# Altium footprint library Temp Sensirion assy FPC.PcbLib: 3 footprints
Each footprint in its own frame and in the unit in brackets; x right, y up, seen from the top. Pads: shape width x height; smd on the part's side, far side on the other; paste and mask are expansions set on the pad; w line width, h text height; cw(c..) or ccw(c..) is an arc to the next point about the centre after c.
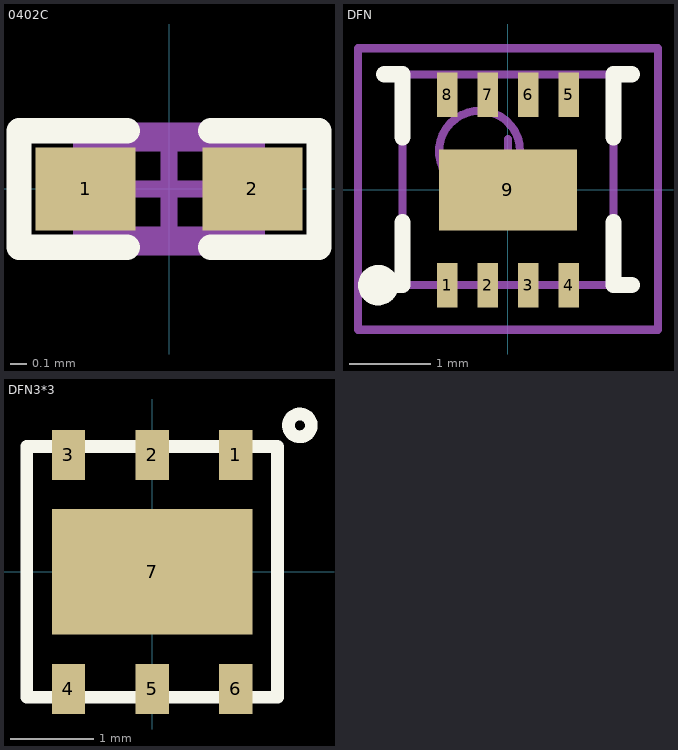
[diagram p0: the footprints below, top view; thin cyan lines are the x and y axes]

## 0402C [mm]
pads (2):
  rect 0.6x0.5 smd: 1(-0.5,0) 2(0.5,0)
Top Overlay:
  lines w0.152: -0.25,-0.35 -0.9,-0.35 -0.9,0.35 -0.25,0.35 ; 0.25,-0.35 0.9,-0.35 0.9,0.35 0.25,0.35
Mechanical 13:
  lines w0.1: -0.525,-0.275 -0.525,0.275 0.525,0.275 0.525,-0.275 -0.525,-0.275
Mechanical 15:
  lines w0.1: -0.275,0 0.275,0 ; 0,-0.275 0,0.275 ; -0.9,-0.35 0.9,-0.35 0.9,0.35 -0.9,0.35 -0.9,-0.35
3D body "User Library-0402(1005M) Cap.step": height 0.5, standoff -0.01, extent -0.508,-0.254 0.508,0.254

## DFN [mm] "QFN, 8-Leads, Body 2.6x2.6mm (max), Pitch 0.50mm, IPC Medium Density"
height 1
pads (9):
  rect 0.25x0.55 smd: 1(-0.75,-1.175) 2(-0.25,-1.175) 3(0.25,-1.175) 4(0.75,-1.175) 5(0.75,1.175) 6(0.25,1.175) 7(-0.25,1.175) 8(-0.75,1.175)
  rect 1.7x1 smd: 9(0,0)
Top Overlay:
  circle w0.25: c-1.6,-1.175 r0.125
  lines w0.2: -1.525,-1.175 -1.3,-1.175 -1.3,-0.4 ; -1.525,1.425 -1.3,1.425 -1.3,0.65 ; 1.3,-0.4 1.3,-1.175 1.525,-1.175 ; 1.3,0.65 1.3,1.425 1.525,1.425
Mechanical 13:
  circle w0.1: c-0.35,0.475 r0.5
  lines w0.1: -1.3,-1.175 1.3,-1.175 1.3,1.425 -1.3,1.425 -1.3,-1.175
Mechanical 15:
  lines w0.1: -0.5,0.125 0.5,0.125 ; 0,-0.375 0,0.625 ; -1.85,-1.725 1.85,-1.725 1.85,1.746 -1.85,1.746 -1.85,-1.725
3D body: height 1, standoff 0, extent -1.485,-1.552 1.509,1.552

## DFN3*3 [mm]
pads (7):
  rect 0.4x0.6 smd: 1(1,1.4) 2(0,1.4) 3(-1,1.4) 4(-1,-1.4) 5(0,-1.4) 6(1,-1.4)
  rect 2.4x1.5 smd: 7(0,0)
Top Overlay:
  circle w0.152: c1.768,1.753 r0.137
  lines w0.152: -1.5,-1.5 -1.5,1.5 1.5,1.5 1.5,-1.5 -1.5,-1.5
3D body: height 1.1, standoff 0, extent -1.302,-1.802 1.302,1.802